# EAGLE library part 9POS_FFC_CONNECTOR (library thanics_robotics)
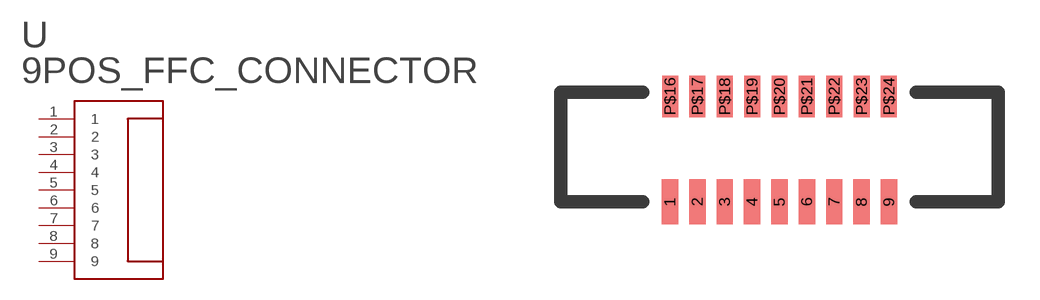
[diagram p25: symbol with the pads of 9POS_FFC_CONNECTOR; footprint 9POS_FFC_CONNECTOR]

Designator prefix -

## 9POS_FFC_CONNECTOR  [9POS_FFC_CONNECTOR]
1  1
2  2
3  3
4  4
5  5
6  6
7  7
8  8
9  9

## Footprint 9POS_FFC_CONNECTOR (pad centres in mm)
smd 0.6 x 1.65: 1 -7.27,-2; 2 -6.27,-2; 3 -5.27,-2; 4 -4.27,-2; 5 -3.27,-2; 6 -2.27,-2; 7 -1.27,-2; 8 -0.27,-2; 9 0.73,-2
smd 0.584 x 1.524: P$16 -7.27,1.852; P$17 -6.27,1.852; P$18 -5.27,1.852; P$19 -4.27,1.852; P$20 -3.27,1.852; P$21 -2.27,1.852; P$22 -1.27,1.852; P$23 -0.27,1.852; P$24 0.73,1.852